# EAGLE library part BMA180 (library HyperTriangle)
Board Mount Accelerometers 3-Axis Digital Out Accelerometer 14-bit Data Sheet <http://www.sparkfun.com/datasheets/Sensors/Accelerometer/BST-BMA180-DS000-03.pdf>
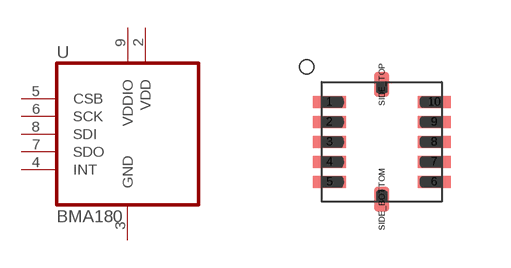
[diagram p2: symbol with the pads of DFN-10; footprint DFN-10]

Designator prefix -

## BMA180  [DFN-10]
2  VDD  pwr
3  GND  pwr
4  INT
5  CSB
6  SCK
7  SDO
8  SDI
9  VDDIO  pwr

## Footprint DFN-10 (pad centres in mm)
Small smt package generally used for accelerometers. IMPORTANT: Signal trace near package: 0.15mm width and minimum 0.5mm length are recommended. Wider trace can be continued after this point. Package Outline Information <www.orient-chip.com/upload/Package/DFN10.pdf>
smd 0.825 x 0.3: 1 -1.312,1; 2 -1.312,0.5; 3 -1.312,0; 4 -1.312,-0.5; 5 -1.312,-1; 6 1.312,-1; 7 1.312,-0.5; 8 1.312,0; 9 1.312,0.5; 10 1.312,1
smd 0.375 x 0.625: SIDE_BOTTOM 0,-1.438; SIDE_TOP 0,1.438